# Altium schematic symbol library Schematics.SchLib: 27 symbols
Pins are listed as number, name and electrical type; pins without a type are passive.

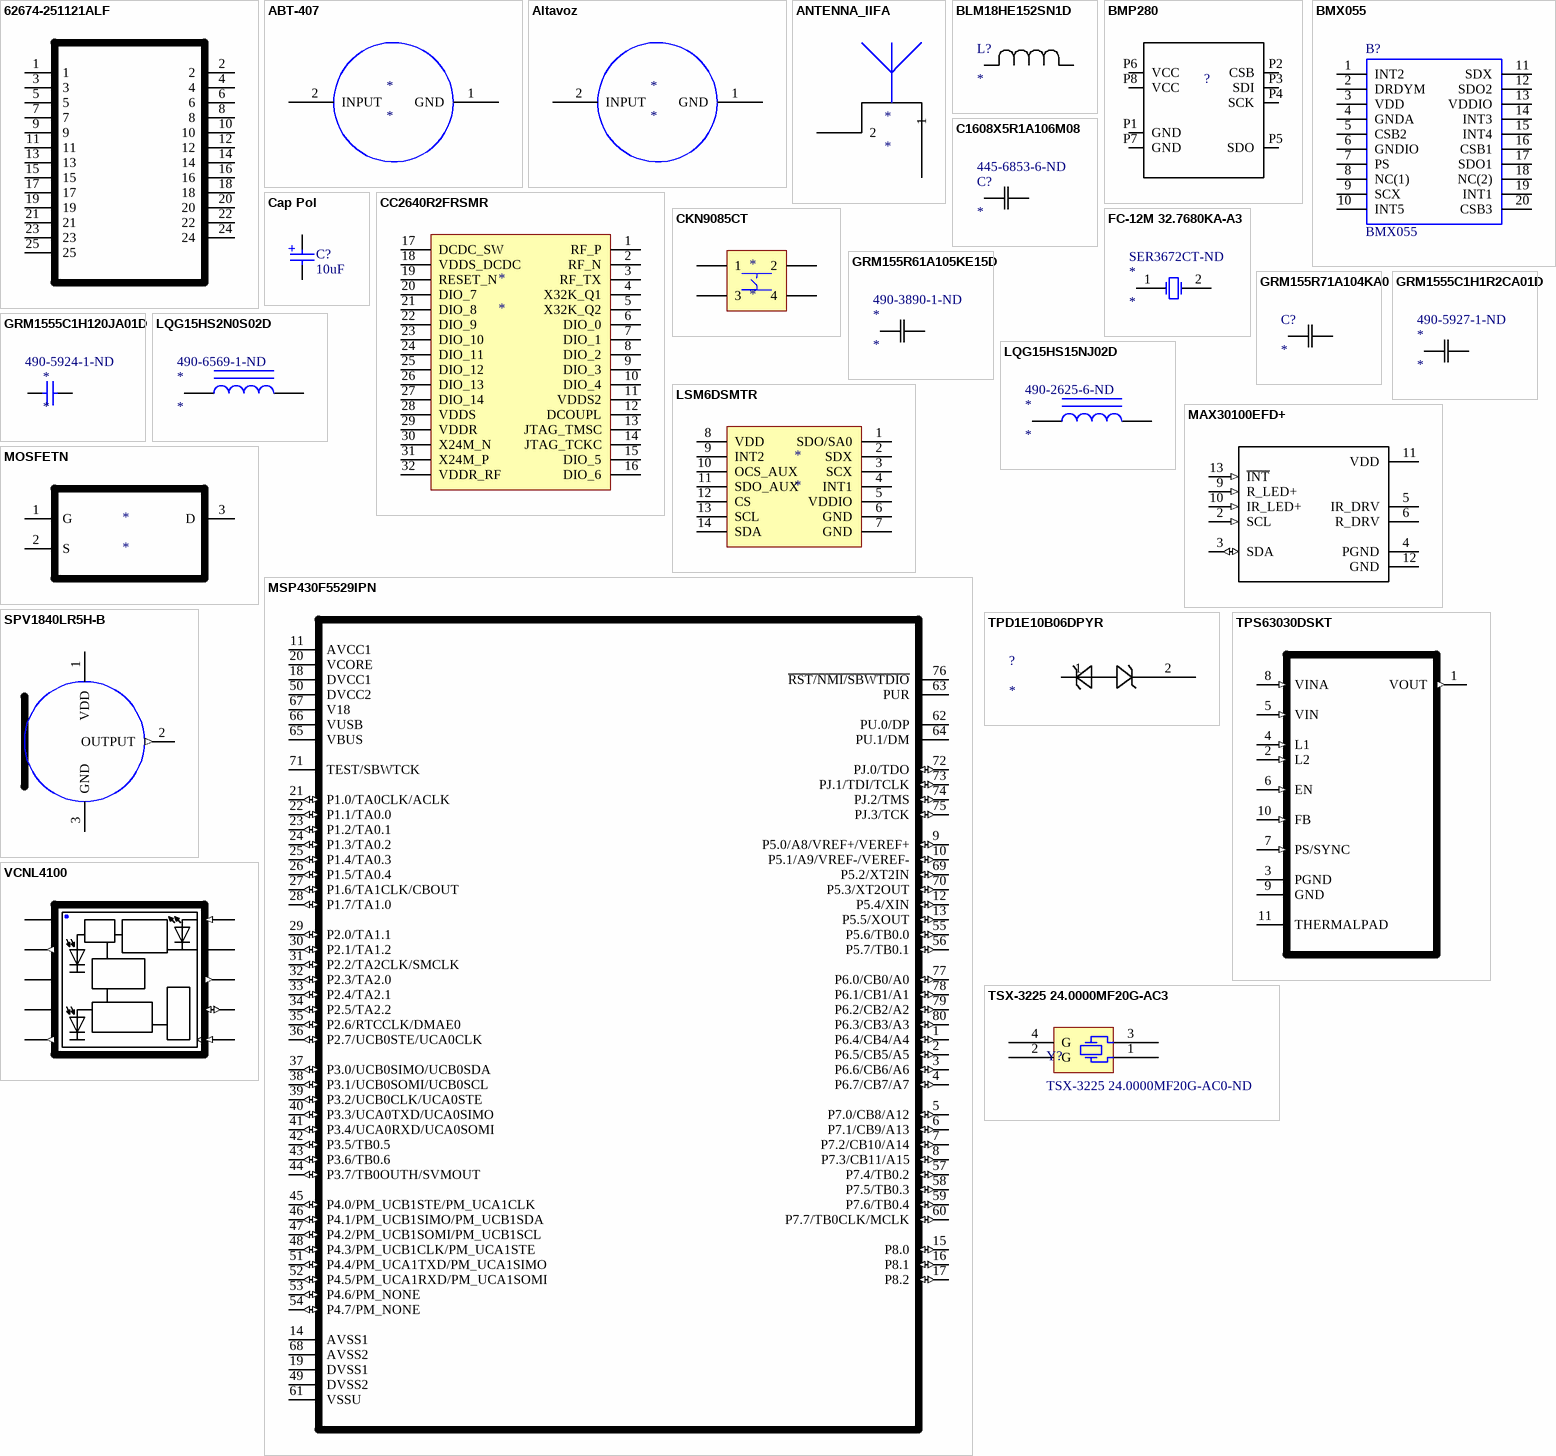
[diagram p0: symbols 62674-251121ALF to VCNL4100]

## 62674-251121ALF
designator U?  (value not drawn)
Conn FFC/FPC Connector SKT 25 POS 1mm Solder ST SMD Embossed T/R; MF: FCI; Availability: Good; Price: 0.71 USD; Package: None; MP: 62674-251121ALF; Value: *
footprint FCI_62674-251121ALF
pins: 1, 2, 3, 4, 5, 6, 7, 8, 9, 10, 11, 12, 13, 14, 15, 16, 17, 18, 19, 20, 21, 22, 23, 24, 25

## ABT-407
designator *
footprint Buzzer
pins: 1 GND, 2 INPUT

## Altavoz
designator *
footprint Altavoz
pins: 1 GND, 2 INPUT

## ANTENNA_IIFA
designator *
footprint ANTENNA_IIFA (PCB Antenna, 2-Leads)
pins: 1, 2

## BLM18HE152SN1D
designator L?
Imported; Manufacturer_Part_Number: BLM18HE152SN1D; Vendor: MURATA; C: Copyright (C) 2015 Accelerated Designs. All rights reserved; Copyright: Copyright (C) 2015 Accelerated Designs. All rights reserved; Value: Value
footprint 0603 (Chip Inductor, Body 0.6x0.3mm, IPC High Density)
pins: 1, 2

## BMP280
designator ?  (value not drawn)
BMP280 Absolute Barometric Pressure Sensor for Battery Powered Devices 2 x 2.5mm; MF: Bosch; MP: BMP280; Price: 2.16 USD; Package: None; Availability: Good; Value: *
footprint LGA-8_BMP280(Primary)
pins: P1 GND (io), P2 CSB (io), P3 SDI (io), P4 SCK (io), P5 SDO (io), P6 VCC (io), P7 GND (io), P8 VCC (io)

## BMX055
designator B?
Small versatile 9-axis sensor module; Manufacturer_Name: Bosch Sensortec; Supplier_Name: RS; RS Part Number: *; Manufacturer_Part_Number: BMX055; Datasheet Link: http://www.mouser.com/ds/2/621/BST-BMX055-DS000-02-586421.pdf; Height: mm; Allied_Number: *; 3D Package: *; Other Part Number: *
footprint LGA_PACKAGE_20_PINS
pins: 1 INT2, 2 DRDYM, 3 VDD (power), 4 GNDA, 5 CSB2, 6 GNDIO, 7 PS, 8 NC(1), 9 SCX, 10 INT5, 11 SDX, 12 SDO2, 13 VDDIO (power), 14 INT3, 15 INT4, 16 CSB1, 17 SDO1, 18 NC(2), 19 INT1, 20 CSB3

## C1608X5R1A106M08
designator C?  Supplier Part Number 1: 445-6853-6-ND
Imported; Manufacturer_Part_Number: C1608X5R1A106M080AC; Vendor: TDK; C: Copyright (C) 2015 Accelerated Designs. All rights reserved; Copyright: Copyright (C) 2015 Accelerated Designs. All rights reserved; Value: Value; Supplier 1: Digikey
footprint CAP_1608
pins: 1, 2

## Cap Pol
designator C?  value 10uF
Capacitor pol; Published: 8-Jun-2000; LatestRevisionDate: 29-May-2009; LatestRevisionNote: IPC-7351 Footprint Added.; PackageReference: C1206; Publisher: Altium Limited; PackageDescription: Chip Capacitor
footprint Cap Pol (Chip Capacitor, Body 1.6x0.8mm, IPC High Density)
pins: 1, 2

## CC2640R2FRSMR
designator *
BT transceiver
footprint QFN-32_UH-L
pins: 1 RF_P, 2 RF_N, 3 RF_TX (power), 4 X32K_Q1, 5 X32K_Q2, 6 DIO_0, 7 DIO_1, 8 DIO_2, 9 DIO_3, 10 DIO_4, 11 VDDS2, 12 DCOUPL, 13 JTAG_TMSC (power), 14 JTAG_TCKC, 15 DIO_5, 16 DIO_6, 17 DCDC_SW, 18 VDDS_DCDC, 19 RESET_N, 20 DIO_7, 21 DIO_8, 22 DIO_9, 23 DIO_10, 24 DIO_11, 25 DIO_12, 26 DIO_13, 27 DIO_14, 28 VDDS, 29 VDDR, 30 X24M_N, 31 X24M_P, 32 VDDR_RF

## CKN9085CT
designator *
pins: 1, 2, 3, 4

## FC-12M 32.7680KA-A3
designator *  Supplier Part Number 1: SER3672CT-ND
Supplier 1: Digikey
footprint Epson_FC-12M (Epson)
pins: 1 OSC1, 2 OSC2

## GRM155R61A105KE15D
designator *  Supplier Part Number 1: 490-3890-1-ND
Supplier 1: Digikey
footprint 0402 (Chip Capacitor, Body 1.0x0.5mm, IPC High Density)
pins: 1, 2

## GRM155R71A104KA0
designator C?
Imported; Manufacturer_Part_Number: GRM155R71A104KA01D; Vendor: Murata; C: Copyright (C) 2015 Accelerated Designs. All rights reserved; Copyright: Copyright (C) 2015 Accelerated Designs. All rights reserved; Value: Value
footprint 0402 (Chip Capacitor, Body 1.0x0.5mm, IPC High Density)
pins: 1, 2

## GRM1555C1H1R2CA01D
designator *  Supplier Part Number 1: 490-5927-1-ND
Supplier 1: Digikey
footprint 0402 (Chip Capacitor, Body 1.0x0.5mm, IPC High Density)
pins: 1, 2

## GRM1555C1H120JA01D
designator *  Supplier Part Number 1: 490-5924-1-ND
Supplier 1: Digikey
footprint 0402 (Chip Capacitor, Body 1.0x0.5mm, IPC High Density)
pins: 1, 2

## LQG15HS2N0S02D
designator *  Supplier Part Number 1: 490-6569-1-ND
Supplier 1: Digikey
footprint IND_LQG15H (MuRata)
pins: 1, 2

## LQG15HS15NJ02D
designator *  Supplier Part Number 1: 490-2625-6-ND
Supplier 1: Digikey
footprint IND_LQG15H (MuRata)
pins: 1, 2

## LSM6DSMTR
designator *
Small versatile 6-axis acc&gyro
footprint LGA14R50P5X4_300X250X83
pins: 1 SDO/SA0, 2 SDX, 3 SCX (power), 4 INT1, 5 VDDIO, 6 GND, 7 GND, 8 VDD, 9 INT2, 10 OCS_AUX, 11 SDO_AUX, 12 CS, 13 SCL (power), 14 SDA

## MAX30100EFD+
designator U?  (value not drawn)
Pulse Oximeter and Heart-Rate Sensor IC 14-Pin OLGA; MF: Maxim Integrated; Availability: Good; MP: MAX30100EFD+; Price: 4.00 USD; Package: None; Value: *
footprint LGA14R80P2X7_560X280X130
pins: 2 SCL (in), 3 SDA (io), 4 PGND, 5 IR_DRV, 6 R_DRV, 9 R_LED+ (in), 10 IR_LED+ (in), 11 VDD (power), 12 GND, 13 ~{INT} (in)

## MOSFETN
designator *
footprint SOT-523
pins: 1 G, 2 S, 3 D

## MSP430F5529IPN
designator U?  (value not drawn)
16-Bit Ultra-Low-Power Microcontroller, 128KB Flash, 8KB RAM, USB, 12Bit ADC, 2 USCIs, 32Bit HW MPY 80-LQFP -40 to 85; MF: Texas Instruments; Price: 6.15 USD; MP: MSP430F5529IPN; Package: LQFP-80 Texas Instruments; Availability: Good; Value: *
footprint QFP50P1400X1400X160-80N
pins: 1 P6.4/CB4/A4 (io), 2 P6.5/CB5/A5 (io), 3 P6.6/CB6/A6 (io), 4 P6.7/CB7/A7 (io), 5 P7.0/CB8/A12 (io), 6 P7.1/CB9/A13 (io), 7 P7.2/CB10/A14 (io), 8 P7.3/CB11/A15 (io), 9 P5.0/A8/VREF+/VEREF+ (io), 10 P5.1/A9/VREF-/VEREF- (io), 11 AVCC1 (power), 12 P5.4/XIN (io), 13 P5.5/XOUT (io), 14 AVSS1 (power), 15 P8.0 (io), 16 P8.1 (io), 17 P8.2 (io), 18 DVCC1 (power), 19 DVSS1 (power), 20 VCORE, 21 P1.0/TA0CLK/ACLK (io), 22 P1.1/TA0.0 (io), 23 P1.2/TA0.1 (io), 24 P1.3/TA0.2 (io), 25 P1.4/TA0.3 (io), 26 P1.5/TA0.4 (io), 27 P1.6/TA1CLK/CBOUT (io), 28 P1.7/TA1.0 (io), 29 P2.0/TA1.1 (io), 30 P2.1/TA1.2 (io), 31 P2.2/TA2CLK/SMCLK (io), 32 P2.3/TA2.0 (io), 33 P2.4/TA2.1 (io), 34 P2.5/TA2.2 (io), 35 P2.6/RTCCLK/DMAE0 (io), 36 P2.7/UCB0STE/UCA0CLK (io), 37 P3.0/UCB0SIMO/UCB0SDA (io), 38 P3.1/UCB0SOMI/UCB0SCL (io), 39 P3.2/UCB0CLK/UCA0STE (io), 40 P3.3/UCA0TXD/UCA0SIMO (io), 41 P3.4/UCA0RXD/UCA0SOMI (io), 42 P3.5/TB0.5 (io), 43 P3.6/TB0.6 (io), 44 P3.7/TB0OUTH/SVMOUT (io), 45 P4.0/PM_UCB1STE/PM_UCA1CLK (io), 46 P4.1/PM_UCB1SIMO/PM_UCB1SDA (io), 47 P4.2/PM_UCB1SOMI/PM_UCB1SCL (io), 48 P4.3/PM_UCB1CLK/PM_UCA1STE (io), 49 DVSS2 (power), 50 DVCC2 (power), 51 P4.4/PM_UCA1TXD/PM_UCA1SIMO (io), 52 P4.5/PM_UCA1RXD/PM_UCA1SOMI (io), 53 P4.6/PM_NONE (io), 54 P4.7/PM_NONE (io), 55 P5.6/TB0.0 (io), 56 P5.7/TB0.1 (io), 57 P7.4/TB0.2 (io), 58 P7.5/TB0.3 (io), 59 P7.6/TB0.4 (io), 60 P7.7/TB0CLK/MCLK (io), 61 VSSU (power), 62 PU.0/DP, 63 PUR, 64 PU.1/DM, 65 VBUS, 66 VUSB, 67 V18, 68 AVSS2 (power), 69 P5.2/XT2IN (io), 70 P5.3/XT2OUT (io), 71 TEST/SBWTCK, 72 PJ.0/TDO (io), 73 PJ.1/TDI/TCLK (io), 74 PJ.2/TMS (io), 75 PJ.3/TCK (io), 76 ~{RST/NMI/SBWTDIO}, 77 P6.0/CB0/A0 (io), 78 P6.1/CB1/A1 (io), 79 P6.2/CB2/A2 (io), 80 P6.3/CB3/A3 (io)

## SPV1840LR5H-B
designator MK?  (value not drawn)
Mic Mems Analog; MF: Knowles Acoustics; Availability: Good; MP: SPV1840LR5H-B; Price: 0.69 USD; Package: None; Value: *
footprint MIC_SPV1840LR5H-B
pins: 1 VDD (power), 2 OUTPUT (out), 3 GND

## TPD1E10B06DPYR
designator ?
Imported; Manufacturer_Part_Number: TPD1E10B06DPYR; Vendor: Texas Instruments; 3D_Library_Name: TI_AllParts_2012-12-25; C: Copyright (C) 2015 Accelerated Designs. All rights reserved; Copyright: Copyright (C) 2015 Accelerated Designs. All rights reserved; Value: Value
footprint DPY0002A (R-PX2SON-N2)
pins: 1, 2

## TPS63030DSKT
designator U?  (value not drawn)
Conv DC-DC 1.8V to 5.5V Non-Inv/Inv/Step Up/Step Down Single-Out 1.2V to 5.5V 0.8A 10-Pin WSON EP T/R; MF: Texas Instruments; Price: 1.51 USD; Package: WSON-10 Texas Instruments; Availability: Good; MP: TPS63030DSKT; Value: *
footprint SON50P260X260X80-11N
pins: 1 VOUT (out), 2 L2 (in), 3 PGND, 4 L1 (in), 5 VIN (in), 6 EN (in), 7 PS/SYNC (in), 8 VINA (in), 9 GND, 10 FB (in), 11 THERMALPAD

## TSX-3225 24.0000MF20G-AC3
designator Y?, comment TSX-3225 24.0000MF20G-AC0-ND
Supplier 1: Digikey; Supplier Part Number 1: TSX-3225 24.0000MF20G-AC0-ND
footprint EPSON_TSX-3225 (SMD, 4-Leads, Body 2.65x3.35mm, Height 0.6mm)
pins: 1, 2 G, 3, 4 G

## VCNL4100
designator U?  (value not drawn)
High Sensitivity Long Distance Proximity Sensor. Dimensions (L x W x H in mm): 8; MF: Vishay; Availability: Good; MP: VCNL4100; Price: 3.52 USD; Package: None; Value: *
footprint VISHAY_VCNL4100_8X3X1.8
pins: 1 GND (power), 2 LED-C (out), 3 VDD (power), 4 NC, 5 LED- (out), 6 LED+ (in), 7 NC2, 8 INT (out), 9 SDAT (io), 10 SCLK (in)